# Altium integrated library STM32.intlib: 10 symbols
Pins are listed as number, name and electrical type; pins without a type are passive.

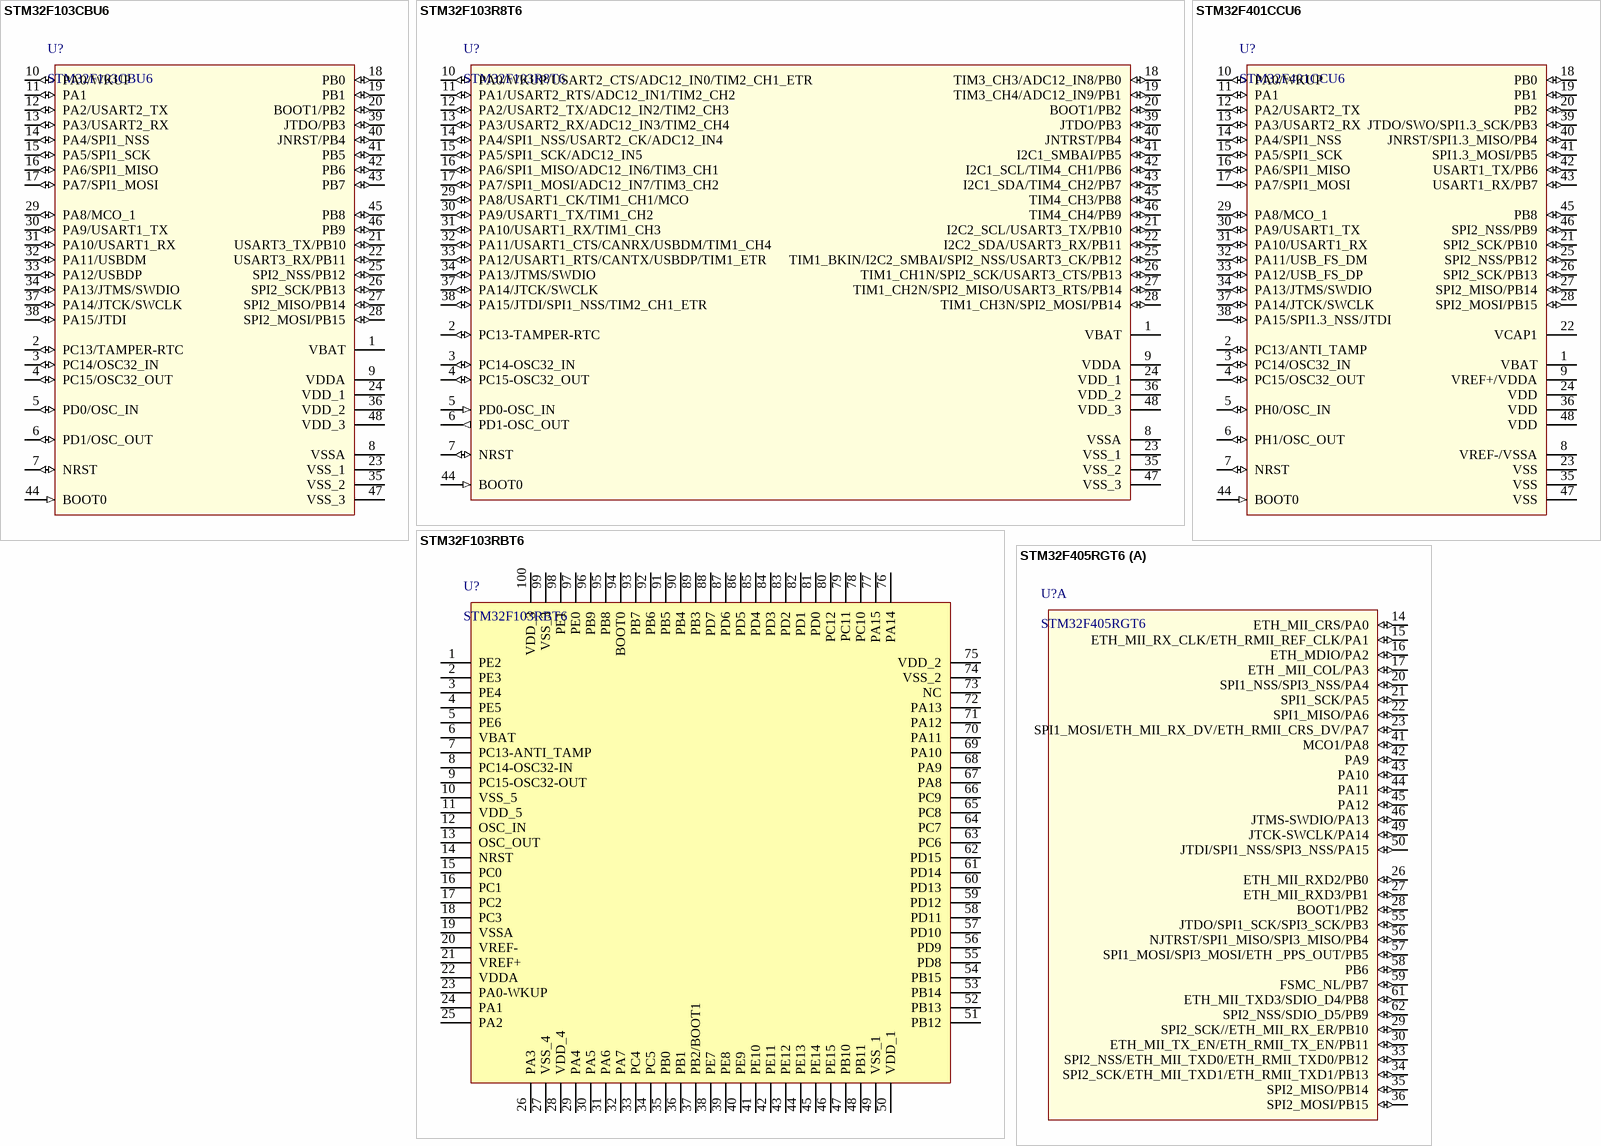
[diagram p0: symbols STM32F103CBU6 to STM32F405RGT6]

## STM32F103CBU6
designator U?
Published: 20130916
footprint QFN48-50P7X7X1 (QFN, 48-Leads, Body 7.2x7.2mm (max), Pitch 0.50mm, IPC Medium Density)
pins: 1 VBAT (power), 2 PC13/TAMPER-RTC (io), 3 PC14/OSC32_IN (io), 4 PC15/OSC32_OUT (io), 5 PD0/OSC_IN (io), 6 PD1/OSC_OUT (io), 7 NRST (io), 8 VSSA (power), 9 VDDA (power), 10 PA0/WKUP (io), 11 PA1 (io), 12 PA2/USART2_TX (io), 13 PA3/USART2_RX (io), 14 PA4/SPI1_NSS (io), 15 PA5/SPI1_SCK (io), 16 PA6/SPI1_MISO (io), 17 PA7/SPI1_MOSI (io), 18 PB0 (io), 19 PB1 (io), 20 BOOT1/PB2 (io), 21 USART3_TX/PB10 (io), 22 USART3_RX/PB11 (io), 23 VSS_1 (power), 24 VDD_1 (power), 25 SPI2_NSS/PB12 (io), 26 SPI2_SCK/PB13 (io), 27 SPI2_MISO/PB14 (io), 28 SPI2_MOSI/PB15 (io), 29 PA8/MCO_1 (io), 30 PA9/USART1_TX (io), 31 PA10/USART1_RX (io), 32 PA11/USBDM (io), 33 PA12/USBDP (io), 34 PA13/JTMS/SWDIO (io), 35 VSS_2 (power), 36 VDD_2 (power), 37 PA14/JTCK/SWCLK (io), 38 PA15/JTDI (io), 39 JTDO/PB3 (io), 40 JNRST/PB4 (io), 41 PB5 (io), 42 PB6 (io), 43 PB7 (io), 44 BOOT0 (in), 45 PB8 (io), 46 PB9 (io), 47 VSS_3 (power), 48 VDD_3 (power)

## STM32F103R8T6
designator U?
Published: 20130111
footprint LQFP48-50P7X7X1.6 (LQFP, 48-Leads, Body 9.2x9.2mm (max), Pitch 0.50mm, IPC Medium Density)
pins: 1 VBAT (power), 2 PC13-TAMPER-RTC (io), 3 PC14-OSC32_IN (io), 4 PC15-OSC32_OUT (io), 5 PD0-OSC_IN (in), 6 PD1-OSC_OUT (out), 7 NRST (io), 8 VSSA (power), 9 VDDA (power), 10 PA0/WKUP/USART2_CTS/ADC12_IN0/TIM2_CH1_ETR (io), 11 PA1/USART2_RTS/ADC12_IN1/TIM2_CH2 (io), 12 PA2/USART2_TX/ADC12_IN2/TIM2_CH3 (io), 13 PA3/USART2_RX/ADC12_IN3/TIM2_CH4 (io), 14 PA4/SPI1_NSS/USART2_CK/ADC12_IN4 (io), 15 PA5/SPI1_SCK/ADC12_IN5 (io), 16 PA6/SPI1_MISO/ADC12_IN6/TIM3_CH1 (io), 17 PA7/SPI1_MOSI/ADC12_IN7/TIM3_CH2 (io), 18 TIM3_CH3/ADC12_IN8/PB0 (io), 19 TIM3_CH4/ADC12_IN9/PB1 (io), 20 BOOT1/PB2 (io), 21 I2C2_SCL/USART3_TX/PB10 (io), 22 I2C2_SDA/USART3_RX/PB11 (io), 23 VSS_1 (power), 24 VDD_1 (power), 25 TIM1_BKIN/I2C2_SMBAI/SPI2_NSS/USART3_CK/PB12 (io), 26 TIM1_CH1N/SPI2_SCK/USART3_CTS/PB13 (io), 27 TIM1_CH2N/SPI2_MISO/USART3_RTS/PB14 (io), 28 TIM1_CH3N/SPI2_MOSI/PB14 (io), 29 PA8/USART1_CK/TIM1_CH1/MCO (io), 30 PA9/USART1_TX/TIM1_CH2 (io), 31 PA10/USART1_RX/TIM1_CH3 (io), 32 PA11/USART1_CTS/CANRX/USBDM/TIM1_CH4 (io), 33 PA12/USART1_RTS/CANTX/USBDP/TIM1_ETR (io), 34 PA13/JTMS/SWDIO (io), 35 VSS_2 (power), 36 VDD_2 (power), 37 PA14/JTCK/SWCLK (io), 38 PA15/JTDI/SPI1_NSS/TIM2_CH1_ETR (io), 39 JTDO/PB3 (io), 40 JNTRST/PB4 (io), 41 I2C1_SMBAI/PB5 (io), 42 I2C1_SCL/TIM4_CH1/PB6 (io), 43 I2C1_SDA/TIM4_CH2/PB7 (io), 44 BOOT0 (in), 45 TIM4_CH3/PB8 (io), 46 TIM4_CH4/PB9 (io), 47 VSS_3 (power), 48 VDD_3 (power)

## STM32F103RBT6
designator U?
Published: 20110607
footprint TQFP100N50P14X14X1.2 (TQFP, 100-Leads, Body 16.0x16.0mm (max), Pitch 0.50mm, IPC Medium Density)
pins: 1 PE2, 2 PE3, 3 PE4, 4 PE5, 5 PE6, 6 VBAT, 7 PC13-ANTI_TAMP, 8 PC14-OSC32-IN, 9 PC15-OSC32-OUT, 10 VSS_5, 11 VDD_5, 12 OSC_IN, 13 OSC_OUT, 14 NRST, 15 PC0, 16 PC1, 17 PC2, 18 PC3, 19 VSSA, 20 VREF-, 21 VREF+, 22 VDDA, 23 PA0-WKUP, 24 PA1, 25 PA2, 26 PA3, 27 VSS_4, 28 VDD_4, 29 PA4, 30 PA5, 31 PA6, 32 PA7, 33 PC4, 34 PC5, 35 PB0, 36 PB1, 37 PB2/BOOT1, 38 PE7, 39 PE8, 40 PE9, 41 PE10, 42 PE11, 43 PE12, 44 PE13, 45 PE14, 46 PE15, 47 PB10, 48 PB11, 49 VSS_1, 50 VDD_1, 51 PB12, 52 PB13, 53 PB14, 54 PB15, 55 PD8, 56 PD9, 57 PD10, 58 PD11, 59 PD12, 60 PD13, 61 PD14, 62 PD15, 63 PC6, 64 PC7, 65 PC8, 66 PC9, 67 PA8, 68 PA9, 69 PA10, 70 PA11, 71 PA12, 72 PA13, 73 NC, 74 VSS_2, 75 VDD_2, 76 PA14, 77 PA15, 78 PC10, 79 PC11, 80 PC12, 81 PD0, 82 PD1, 83 PD2, 84 PD3, 85 PD4, 86 PD5, 87 PD6, 88 PD7, 89 PB3, 90 PB4, 91 PB5, 92 PB6, 93 PB7, 94 BOOT0, 95 PB8, 96 PB9, 97 PE0, 98 PE1, 99 VSS_3, 100 VDD_3

## STM32F401CCU6
designator U?
Published: 20131015
footprint QFN48-50P7X7X1 (QFN, 48-Leads, Body 7.2x7.2mm (max), Pitch 0.50mm, IPC Medium Density)
pins: 1 VBAT (power), 2 PC13/ANTI_TAMP (io), 3 PC14/OSC32_IN (io), 4 PC15/OSC32_OUT (io), 5 PH0/OSC_IN (io), 6 PH1/OSC_OUT (io), 7 NRST (io), 8 VREF-/VSSA (power), 9 VREF+/VDDA (power), 10 PA0/WKUP (io), 11 PA1 (io), 12 PA2/USART2_TX (io), 13 PA3/USART2_RX (io), 14 PA4/SPI1_NSS (io), 15 PA5/SPI1_SCK (io), 16 PA6/SPI1_MISO (io), 17 PA7/SPI1_MOSI (io), 18 PB0 (io), 19 PB1 (io), 20 PB2 (io), 21 SPI2_SCK/PB10 (io), 22 VCAP1 (power), 23 VSS (power), 24 VDD (power), 25 SPI2_NSS/PB12 (io), 26 SPI2_SCK/PB13 (io), 27 SPI2_MISO/PB14 (io), 28 SPI2_MOSI/PB15 (io), 29 PA8/MCO_1 (io), 30 PA9/USART1_TX (io), 31 PA10/USART1_RX (io), 32 PA11/USB_FS_DM (io), 33 PA12/USB_FS_DP (io), 34 PA13/JTMS/SWDIO (io), 35 VSS (power), 36 VDD (power), 37 PA14/JTCK/SWCLK (io), 38 PA15/SPI1.3_NSS/JTDI (io), 39 JTDO/SWO/SPI1.3_SCK/PB3 (io), 40 JNRST/SPI1.3_MISO/PB4 (io), 41 SPI1.3_MOSI/PB5 (io), 42 USART1_TX/PB6 (io), 43 USART1_RX/PB7 (io), 44 BOOT0 (in), 45 PB8 (io), 46 SPI2_NSS/PB9 (io), 47 VSS (power), 48 VDD (power)

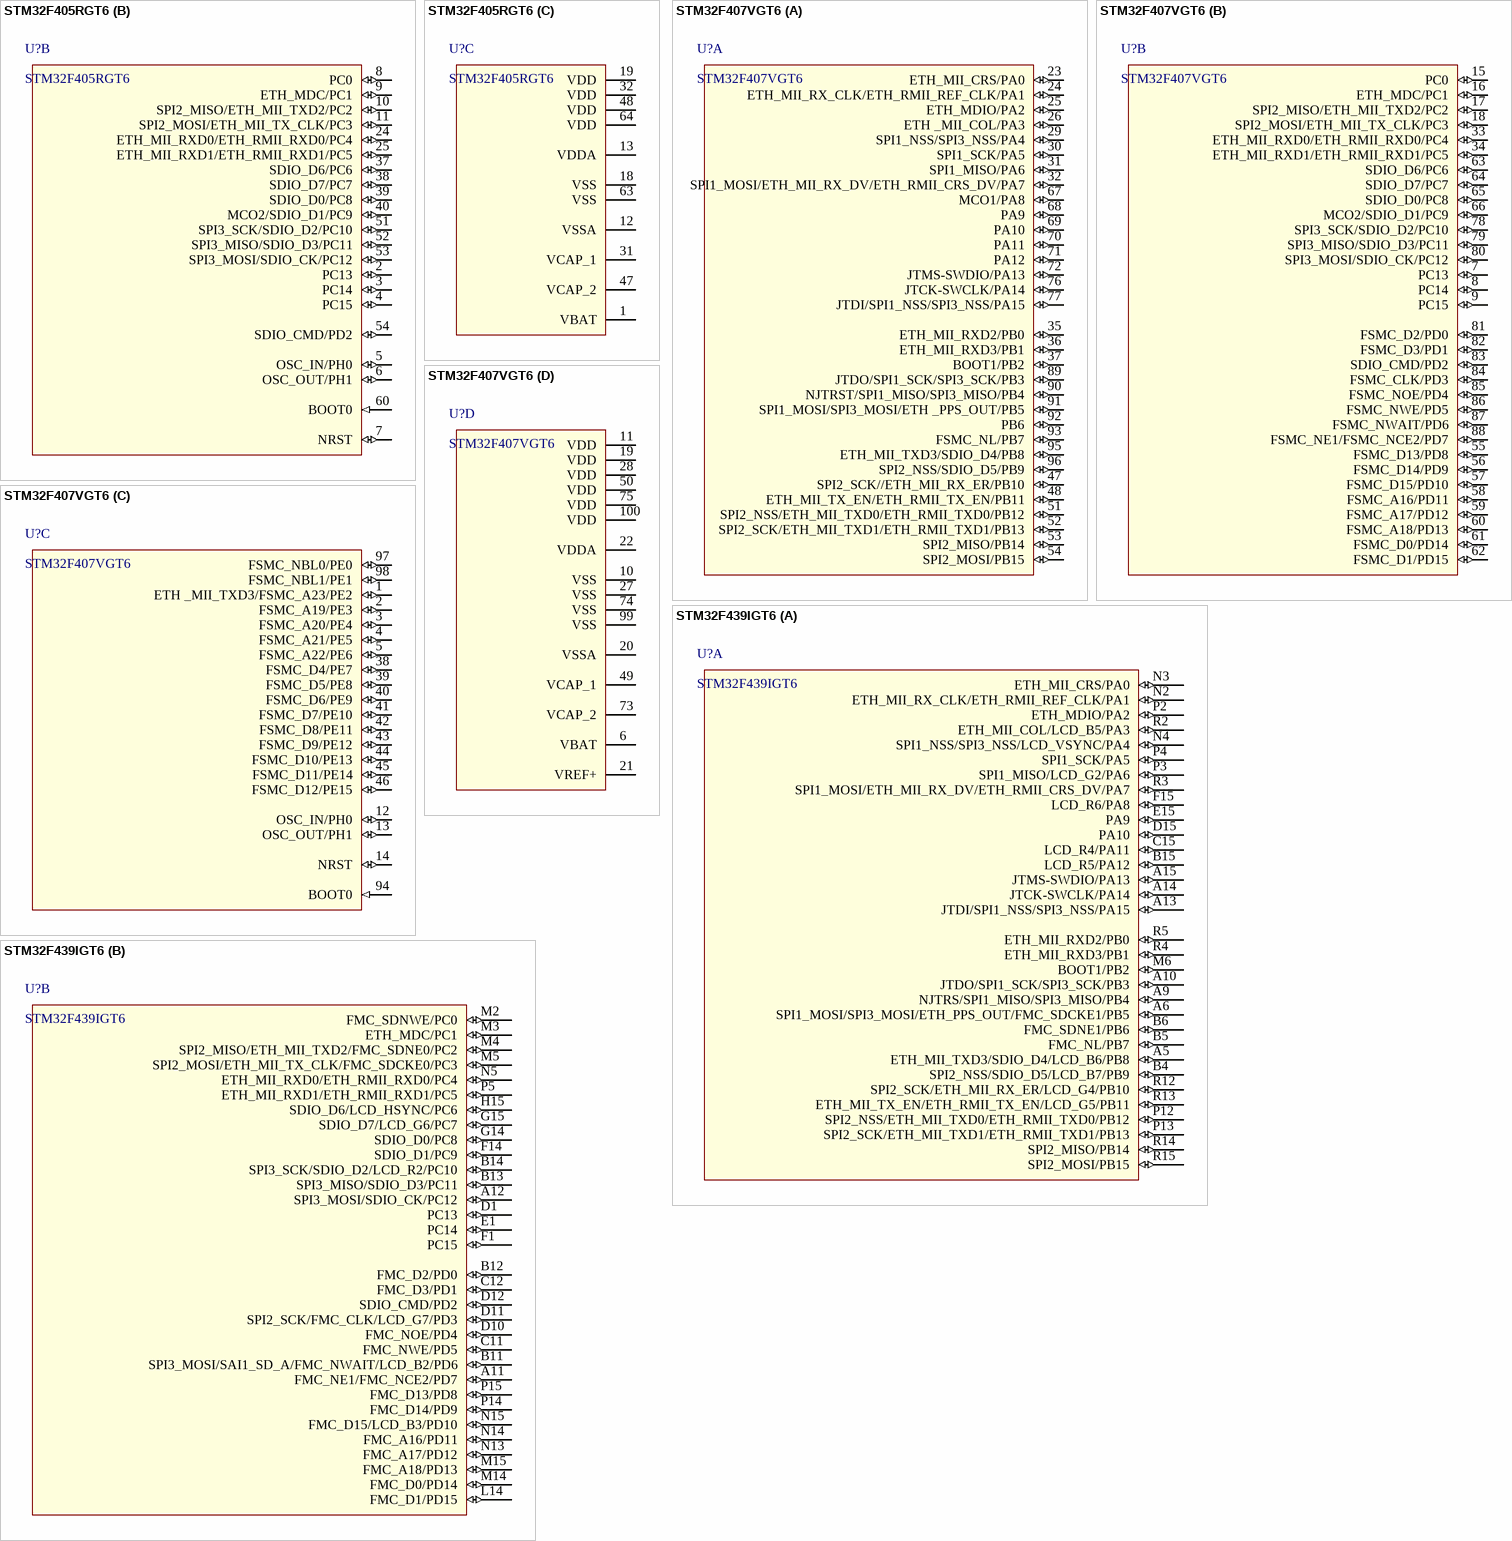
[diagram p1: symbols STM32F405RGT6 to STM32F439IGT6]

## STM32F405RGT6
designator U?
Published: 20130917
footprint QFP64-50P10X10X1.6
part A pins: 14 ETH_MII_CRS/PA0 (io), 15 ETH_MII_RX_CLK/ETH_RMII_REF_CLK/PA1 (io), 16 ETH_MDIO/PA2 (io), 17 ETH _MII_COL/PA3 (io), 20 SPI1_NSS/SPI3_NSS/PA4 (io), 21 SPI1_SCK/PA5 (io), 22 SPI1_MISO/PA6 (io), 23 SPI1_MOSI/ETH_MII_RX_DV/ETH_RMII_CRS_DV/PA7 (io), 26 ETH_MII_RXD2/PB0 (io), 27 ETH_MII_RXD3/PB1 (io), 28 BOOT1/PB2 (io), 29 SPI2_SCK//ETH_MII_RX_ER/PB10 (io), 30 ETH_MII_TX_EN/ETH_RMII_TX_EN/PB11 (io), 33 SPI2_NSS/ETH_MII_TXD0/ETH_RMII_TXD0/PB12 (io), 34 SPI2_SCK/ETH_MII_TXD1/ETH_RMII_TXD1/PB13 (io), 35 SPI2_MISO/PB14 (io), 36 SPI2_MOSI/PB15 (io), 41 MCO1/PA8 (io), 42 PA9 (io), 43 PA10 (io), 44 PA11 (io), 45 PA12 (io), 46 JTMS-SWDIO/PA13 (io), 49 JTCK-SWCLK/PA14 (io), 50 JTDI/SPI1_NSS/SPI3_NSS/PA15 (io), 55 JTDO/SPI1_SCK/SPI3_SCK/PB3 (io), 56 NJTRST/SPI1_MISO/SPI3_MISO/PB4 (io), 57 SPI1_MOSI/SPI3_MOSI/ETH _PPS_OUT/PB5 (io), 58 PB6 (io), 59 FSMC_NL/PB7 (io), 61 ETH_MII_TXD3/SDIO_D4/PB8 (io), 62 SPI2_NSS/SDIO_D5/PB9 (io)
part B pins: 2 PC13 (io), 3 PC14 (io), 4 PC15 (io), 5 OSC_IN/PH0 (io), 6 OSC_OUT/PH1 (io), 7 NRST (io), 8 PC0 (io), 9 ETH_MDC/PC1 (io), 10 SPI2_MISO/ETH_MII_TXD2/PC2 (io), 11 SPI2_MOSI/ETH_MII_TX_CLK/PC3 (io), 24 ETH_MII_RXD0/ETH_RMII_RXD0/PC4 (io), 25 ETH_MII_RXD1/ETH_RMII_RXD1/PC5 (io), 37 SDIO_D6/PC6 (io), 38 SDIO_D7/PC7 (io), 39 SDIO_D0/PC8 (io), 40 MCO2/SDIO_D1/PC9 (io), 51 SPI3_SCK/SDIO_D2/PC10 (io), 52 SPI3_MISO/SDIO_D3/PC11 (io), 53 SPI3_MOSI/SDIO_CK/PC12 (io), 54 SDIO_CMD/PD2 (io), 60 BOOT0 (in)
part C pins: 1 VBAT (power), 12 VSSA (power), 13 VDDA (power), 18 VSS (power), 19 VDD (power), 31 VCAP_1 (power), 32 VDD (power), 47 VCAP_2 (power), 48 VDD (power), 63 VSS (power), 64 VDD (power)

## STM32F407VGT6
designator U?
Published: 20130831
part A pins: 23 ETH_MII_CRS/PA0 (io), 24 ETH_MII_RX_CLK/ETH_RMII_REF_CLK/PA1 (io), 25 ETH_MDIO/PA2 (io), 26 ETH _MII_COL/PA3 (io), 29 SPI1_NSS/SPI3_NSS/PA4 (io), 30 SPI1_SCK/PA5 (io), 31 SPI1_MISO/PA6 (io), 32 SPI1_MOSI/ETH_MII_RX_DV/ETH_RMII_CRS_DV/PA7 (io), 35 ETH_MII_RXD2/PB0 (io), 36 ETH_MII_RXD3/PB1 (io), 37 BOOT1/PB2 (io), 47 SPI2_SCK//ETH_MII_RX_ER/PB10 (io), 48 ETH_MII_TX_EN/ETH_RMII_TX_EN/PB11 (io), 51 SPI2_NSS/ETH_MII_TXD0/ETH_RMII_TXD0/PB12 (io), 52 SPI2_SCK/ETH_MII_TXD1/ETH_RMII_TXD1/PB13 (io), 53 SPI2_MISO/PB14 (io), 54 SPI2_MOSI/PB15 (io), 67 MCO1/PA8 (io), 68 PA9 (io), 69 PA10 (io), 70 PA11 (io), 71 PA12 (io), 72 JTMS-SWDIO/PA13 (io), 76 JTCK-SWCLK/PA14 (io), 77 JTDI/SPI1_NSS/SPI3_NSS/PA15 (io), 89 JTDO/SPI1_SCK/SPI3_SCK/PB3 (io), 90 NJTRST/SPI1_MISO/SPI3_MISO/PB4 (io), 91 SPI1_MOSI/SPI3_MOSI/ETH _PPS_OUT/PB5 (io), 92 PB6 (io), 93 FSMC_NL/PB7 (io), 95 ETH_MII_TXD3/SDIO_D4/PB8 (io), 96 SPI2_NSS/SDIO_D5/PB9 (io)
part B pins: 7 PC13 (io), 8 PC14 (io), 9 PC15 (io), 15 PC0 (io), 16 ETH_MDC/PC1 (io), 17 SPI2_MISO/ETH_MII_TXD2/PC2 (io), 18 SPI2_MOSI/ETH_MII_TX_CLK/PC3 (io), 33 ETH_MII_RXD0/ETH_RMII_RXD0/PC4 (io), 34 ETH_MII_RXD1/ETH_RMII_RXD1/PC5 (io), 55 FSMC_D13/PD8 (io), 56 FSMC_D14/PD9 (io), 57 FSMC_D15/PD10 (io), 58 FSMC_A16/PD11 (io), 59 FSMC_A17/PD12 (io), 60 FSMC_A18/PD13 (io), 61 FSMC_D0/PD14 (io), 62 FSMC_D1/PD15 (io), 63 SDIO_D6/PC6 (io), 64 SDIO_D7/PC7 (io), 65 SDIO_D0/PC8 (io), 66 MCO2/SDIO_D1/PC9 (io), 78 SPI3_SCK/SDIO_D2/PC10 (io), 79 SPI3_MISO/SDIO_D3/PC11 (io), 80 SPI3_MOSI/SDIO_CK/PC12 (io), 81 FSMC_D2/PD0 (io), 82 FSMC_D3/PD1 (io), 83 SDIO_CMD/PD2 (io), 84 FSMC_CLK/PD3 (io), 85 FSMC_NOE/PD4 (io), 86 FSMC_NWE/PD5 (io), 87 FSMC_NWAIT/PD6 (io), 88 FSMC_NE1/FSMC_NCE2/PD7 (io)
part C pins: 1 ETH _MII_TXD3/FSMC_A23/PE2 (io), 2 FSMC_A19/PE3 (io), 3 FSMC_A20/PE4 (io), 4 FSMC_A21/PE5 (io), 5 FSMC_A22/PE6 (io), 12 OSC_IN/PH0 (io), 13 OSC_OUT/PH1 (io), 14 NRST (io), 38 FSMC_D4/PE7 (io), 39 FSMC_D5/PE8 (io), 40 FSMC_D6/PE9 (io), 41 FSMC_D7/PE10 (io), 42 FSMC_D8/PE11 (io), 43 FSMC_D9/PE12 (io), 44 FSMC_D10/PE13 (io), 45 FSMC_D11/PE14 (io), 46 FSMC_D12/PE15 (io), 94 BOOT0 (in), 97 FSMC_NBL0/PE0 (io), 98 FSMC_NBL1/PE1 (io)
part D pins: 6 VBAT (power), 10 VSS (power), 11 VDD (power), 19 VDD (power), 20 VSSA (power), 21 VREF+ (power), 22 VDDA (power), 27 VSS (power), 28 VDD (power), 49 VCAP_1 (power), 50 VDD (power), 73 VCAP_2 (power), 74 VSS (power), 75 VDD (power), 99 VSS (power), 100 VDD (power)

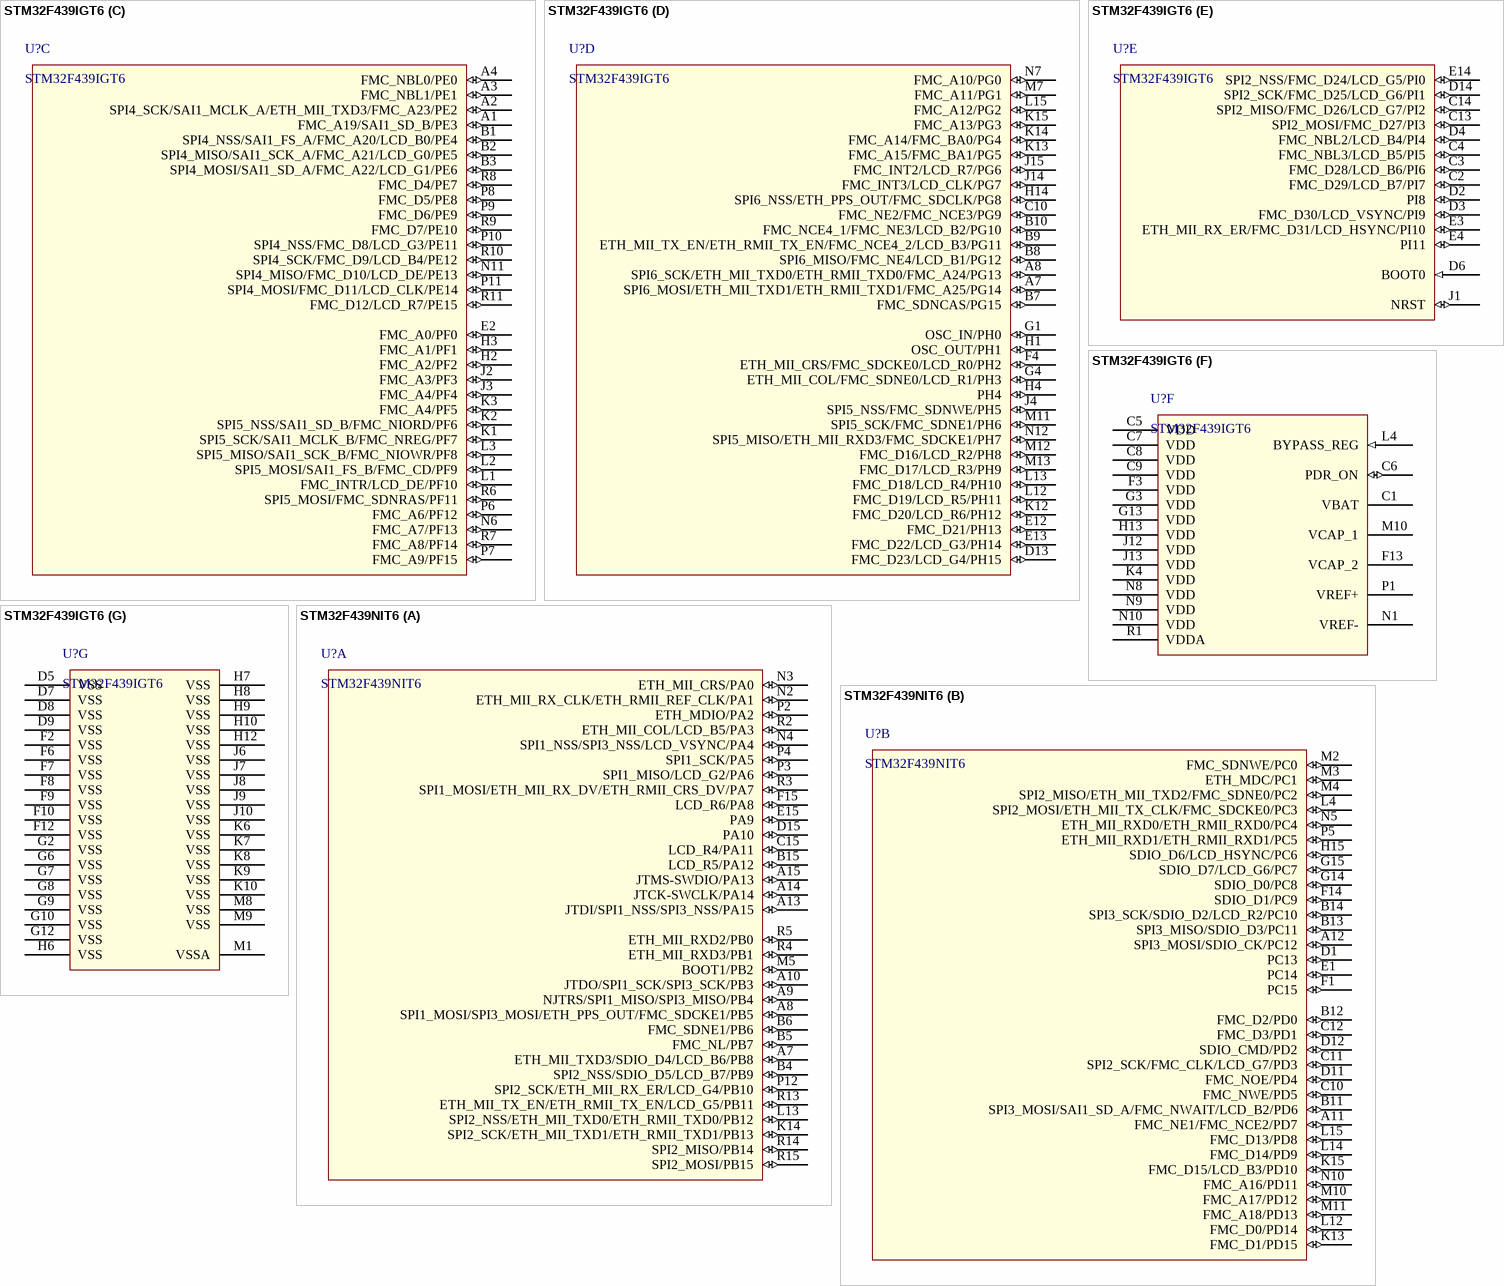
[diagram p2: symbols STM32F439IGT6 to STM32F439NIT6]

## STM32F439IGT6
designator U?
Published: 20130814
footprint BGA176C65P10X10X0.6 (BGA, 176-Leads, Body 10.0x10.0mm,  Pitch 0.65mm)
part A pins: A5 ETH_MII_TXD3/SDIO_D4/LCD_B6/PB8 (io), A6 SPI1_MOSI/SPI3_MOSI/ETH_PPS_OUT/FMC_SDCKE1/PB5 (io), A9 NJTRS/SPI1_MISO/SPI3_MISO/PB4 (io), A10 JTDO/SPI1_SCK/SPI3_SCK/PB3 (io), A13 JTDI/SPI1_NSS/SPI3_NSS/PA15 (io), A14 JTCK-SWCLK/PA14 (io), A15 JTMS-SWDIO/PA13 (io), B4 SPI2_NSS/SDIO_D5/LCD_B7/PB9 (io), B5 FMC_NL/PB7 (io), B6 FMC_SDNE1/PB6 (io), B15 LCD_R5/PA12 (io), C15 LCD_R4/PA11 (io), D15 PA10 (io), E15 PA9 (io), F15 LCD_R6/PA8 (io), M6 BOOT1/PB2 (io), N2 ETH_MII_RX_CLK/ETH_RMII_REF_CLK/PA1 (io), N3 ETH_MII_CRS/PA0 (io), N4 SPI1_NSS/SPI3_NSS/LCD_VSYNC/PA4 (io), P2 ETH_MDIO/PA2 (io), P3 SPI1_MISO/LCD_G2/PA6 (io), P4 SPI1_SCK/PA5 (io), P12 SPI2_NSS/ETH_MII_TXD0/ETH_RMII_TXD0/PB12 (io), P13 SPI2_SCK/ETH_MII_TXD1/ETH_RMII_TXD1/PB13 (io), R2 ETH_MII_COL/LCD_B5/PA3 (io), R3 SPI1_MOSI/ETH_MII_RX_DV/ETH_RMII_CRS_DV/PA7 (io), R4 ETH_MII_RXD3/PB1 (io), R5 ETH_MII_RXD2/PB0 (io), R12 SPI2_SCK/ETH_MII_RX_ER/LCD_G4/PB10 (io), R13 ETH_MII_TX_EN/ETH_RMII_TX_EN/LCD_G5/PB11 (io), R14 SPI2_MISO/PB14 (io), R15 SPI2_MOSI/PB15 (io)
part B pins: A11 FMC_NE1/FMC_NCE2/PD7 (io), A12 SPI3_MOSI/SDIO_CK/PC12 (io), B11 SPI3_MOSI/SAI1_SD_A/FMC_NWAIT/LCD_B2/PD6 (io), B12 FMC_D2/PD0 (io), B13 SPI3_MISO/SDIO_D3/PC11 (io), B14 SPI3_SCK/SDIO_D2/LCD_R2/PC10 (io), C11 FMC_NWE/PD5 (io), C12 FMC_D3/PD1 (io), D1 PC13 (io), D10 FMC_NOE/PD4 (io), D11 SPI2_SCK/FMC_CLK/LCD_G7/PD3 (io), D12 SDIO_CMD/PD2 (io), E1 PC14 (io), F1 PC15 (io), F14 SDIO_D1/PC9 (io), G14 SDIO_D0/PC8 (io), G15 SDIO_D7/LCD_G6/PC7 (io), H15 SDIO_D6/LCD_HSYNC/PC6 (io), L14 FMC_D1/PD15 (io), M2 FMC_SDNWE/PC0 (io), M3 ETH_MDC/PC1 (io), M4 SPI2_MISO/ETH_MII_TXD2/FMC_SDNE0/PC2 (io), M5 SPI2_MOSI/ETH_MII_TX_CLK/FMC_SDCKE0/PC3 (io), M14 FMC_D0/PD14 (io), M15 FMC_A18/PD13 (io), N5 ETH_MII_RXD0/ETH_RMII_RXD0/PC4 (io), N13 FMC_A17/PD12 (io), N14 FMC_A16/PD11 (io), N15 FMC_D15/LCD_B3/PD10 (io), P5 ETH_MII_RXD1/ETH_RMII_RXD1/PC5 (io), P14 FMC_D14/PD9 (io), P15 FMC_D13/PD8 (io)
part C pins: A1 FMC_A19/SAI1_SD_B/PE3 (io), A2 SPI4_SCK/SAI1_MCLK_A/ETH_MII_TXD3/FMC_A23/PE2 (io), A3 FMC_NBL1/PE1 (io), A4 FMC_NBL0/PE0 (io), B1 SPI4_NSS/SAI1_FS_A/FMC_A20/LCD_B0/PE4 (io), B2 SPI4_MISO/SAI1_SCK_A/FMC_A21/LCD_G0/PE5 (io), B3 SPI4_MOSI/SAI1_SD_A/FMC_A22/LCD_G1/PE6 (io), E2 FMC_A0/PF0 (io), H2 FMC_A2/PF2 (io), H3 FMC_A1/PF1 (io), J2 FMC_A3/PF3 (io), J3 FMC_A4/PF4 (io), K1 SPI5_SCK/SAI1_MCLK_B/FMC_NREG/PF7 (io), K2 SPI5_NSS/SAI1_SD_B/FMC_NIORD/PF6 (io), K3 FMC_A4/PF5 (io), L1 FMC_INTR/LCD_DE/PF10 (io), L2 SPI5_MOSI/SAI1_FS_B/FMC_CD/PF9 (io), L3 SPI5_MISO/SAI1_SCK_B/FMC_NIOWR/PF8 (io), N6 FMC_A7/PF13 (io), N11 SPI4_MISO/FMC_D10/LCD_DE/PE13 (io), P6 FMC_A6/PF12 (io), P7 FMC_A9/PF15 (io), P8 FMC_D5/PE8 (io), P9 FMC_D6/PE9 (io), P10 SPI4_NSS/FMC_D8/LCD_G3/PE11 (io), P11 SPI4_MOSI/FMC_D11/LCD_CLK/PE14 (io), R6 SPI5_MOSI/FMC_SDNRAS/PF11 (io), R7 FMC_A8/PF14 (io), R8 FMC_D4/PE7 (io), R9 FMC_D7/PE10 (io), R10 SPI4_SCK/FMC_D9/LCD_B4/PE12 (io), R11 FMC_D12/LCD_R7/PE15 (io)
part D pins: A7 SPI6_MOSI/ETH_MII_TXD1/ETH_RMII_TXD1/FMC_A25/PG14 (io), A8 SPI6_SCK/ETH_MII_TXD0/ETH_RMII_TXD0/FMC_A24/PG13 (io), B7 FMC_SDNCAS/PG15 (io), B8 SPI6_MISO/FMC_NE4/LCD_B1/PG12 (io), B9 ETH_MII_TX_EN/ETH_RMII_TX_EN/FMC_NCE4_2/LCD_B3/PG11 (io), B10 FMC_NCE4_1/FMC_NE3/LCD_B2/PG10 (io), C10 FMC_NE2/FMC_NCE3/PG9 (io), D13 FMC_D23/LCD_G4/PH15 (io), E12 FMC_D21/PH13 (io), E13 FMC_D22/LCD_G3/PH14 (io), F4 ETH_MII_CRS/FMC_SDCKE0/LCD_R0/PH2 (io), G1 OSC_IN/PH0 (io), G4 ETH_MII_COL/FMC_SDNE0/LCD_R1/PH3 (io), H1 OSC_OUT/PH1 (io), H4 PH4 (io), H14 SPI6_NSS/ETH_PPS_OUT/FMC_SDCLK/PG8 (io), J4 SPI5_NSS/FMC_SDNWE/PH5 (io), J14 FMC_INT3/LCD_CLK/PG7 (io), J15 FMC_INT2/LCD_R7/PG6 (io), K12 FMC_D20/LCD_R6/PH12 (io), K13 FMC_A15/FMC_BA1/PG5 (io), K14 FMC_A14/FMC_BA0/PG4 (io), K15 FMC_A13/PG3 (io), L12 FMC_D19/LCD_R5/PH11 (io), L13 FMC_D18/LCD_R4/PH10 (io), L15 FMC_A12/PG2 (io), M7 FMC_A11/PG1 (io), M11 SPI5_SCK/FMC_SDNE1/PH6 (io), M12 FMC_D16/LCD_R2/PH8 (io), M13 FMC_D17/LCD_R3/PH9 (io), N7 FMC_A10/PG0 (io), N12 SPI5_MISO/ETH_MII_RXD3/FMC_SDCKE1/PH7 (io)
part E pins: C2 FMC_D29/LCD_B7/PI7 (io), C3 FMC_D28/LCD_B6/PI6 (io), C4 FMC_NBL3/LCD_B5/PI5 (io), C13 SPI2_MOSI/FMC_D27/PI3 (io), C14 SPI2_MISO/FMC_D26/LCD_G7/PI2 (io), D2 PI8 (io), D3 FMC_D30/LCD_VSYNC/PI9 (io), D4 FMC_NBL2/LCD_B4/PI4 (io), D6 BOOT0 (in), D14 SPI2_SCK/FMC_D25/LCD_G6/PI1 (io), E3 ETH_MII_RX_ER/FMC_D31/LCD_HSYNC/PI10 (io), E4 PI11 (io), E14 SPI2_NSS/FMC_D24/LCD_G5/PI0 (io), J1 NRST (io)
part F pins: C1 VBAT (power), C5 VDD (power), C6 PDR_ON (io), C7 VDD (power), C8 VDD (power), C9 VDD (power), F3 VDD (power), F13 VCAP_2 (power), G3 VDD (power), G13 VDD (power), H13 VDD (power), J12 VDD (power), J13 VDD (power), K4 VDD (power), L4 BYPASS_REG (in), M10 VCAP_1 (power), N1 VREF- (power), N8 VDD (power), N9 VDD (power), N10 VDD (power), P1 VREF+ (power), R1 VDDA (power)
part G pins: D5 VSS (power), D7 VSS (power), D8 VSS (power), D9 VSS (power), F2 VSS (power), F6 VSS (power), F7 VSS (power), F8 VSS (power), F9 VSS (power), F10 VSS (power), F12 VSS (power), G2 VSS (power), G6 VSS (power), G7 VSS (power), G8 VSS (power), G9 VSS (power), G10 VSS (power), G12 VSS (power), H6 VSS (power), H7 VSS (power), H8 VSS (power), H9 VSS (power), H10 VSS (power), H12 VSS (power), J6 VSS (power), J7 VSS (power), J8 VSS (power), J9 VSS (power), J10 VSS (power), K6 VSS (power), K7 VSS (power), K8 VSS (power), K9 VSS (power), K10 VSS (power), M1 VSSA (power), M8 VSS (power), M9 VSS (power)

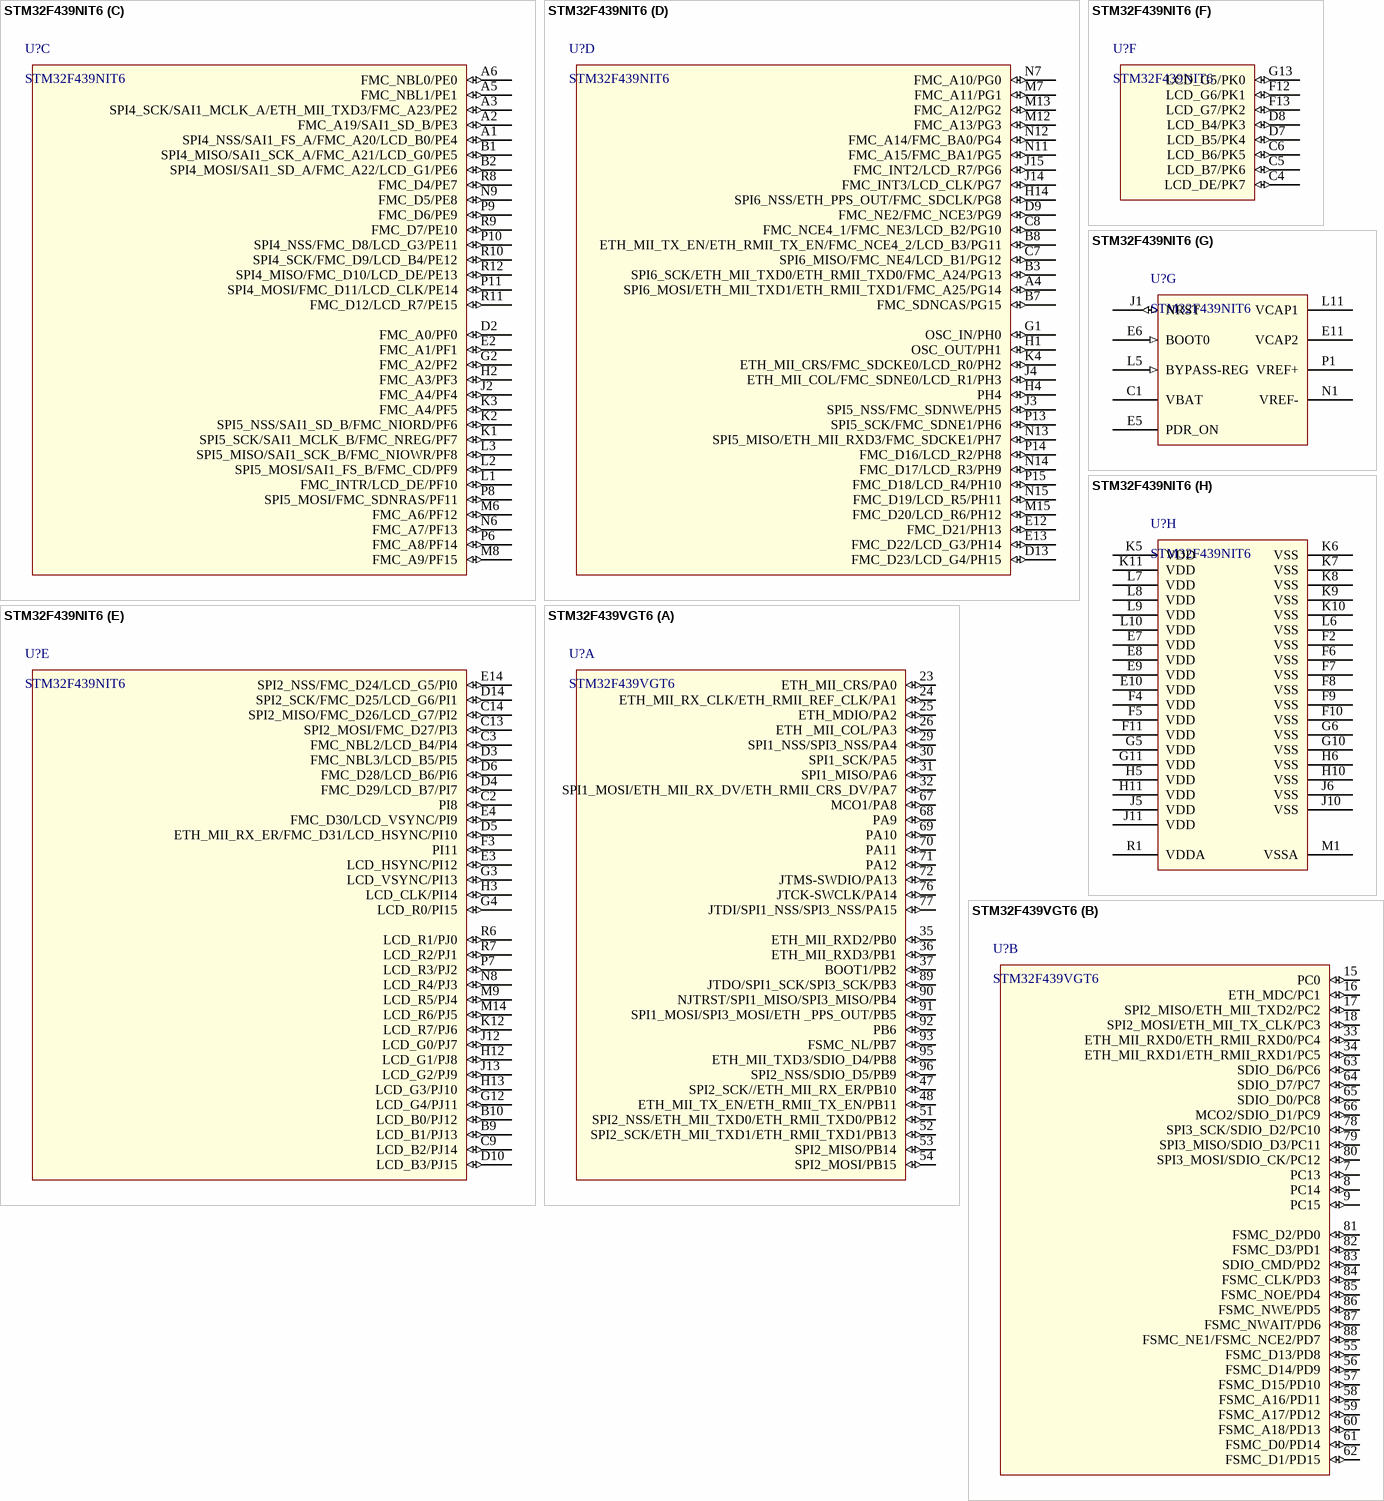
[diagram p3: symbols STM32F439NIT6 to STM32F439VGT6]

## STM32F439NIT6
designator U?
Published: 20130831
footprint BGA216C80P13X13X1 (BGA, 216-Leads, Body 13.0x13.0mm,  Pitch 0.80mm)
part A pins: A7 ETH_MII_TXD3/SDIO_D4/LCD_B6/PB8 (io), A8 SPI1_MOSI/SPI3_MOSI/ETH_PPS_OUT/FMC_SDCKE1/PB5 (io), A9 NJTRS/SPI1_MISO/SPI3_MISO/PB4 (io), A10 JTDO/SPI1_SCK/SPI3_SCK/PB3 (io), A13 JTDI/SPI1_NSS/SPI3_NSS/PA15 (io), A14 JTCK-SWCLK/PA14 (io), A15 JTMS-SWDIO/PA13 (io), B4 SPI2_NSS/SDIO_D5/LCD_B7/PB9 (io), B5 FMC_NL/PB7 (io), B6 FMC_SDNE1/PB6 (io), B15 LCD_R5/PA12 (io), C15 LCD_R4/PA11 (io), D15 PA10 (io), E15 PA9 (io), F15 LCD_R6/PA8 (io), K14 SPI2_SCK/ETH_MII_TXD1/ETH_RMII_TXD1/PB13 (io), L13 SPI2_NSS/ETH_MII_TXD0/ETH_RMII_TXD0/PB12 (io), M5 BOOT1/PB2 (io), N2 ETH_MII_RX_CLK/ETH_RMII_REF_CLK/PA1 (io), N3 ETH_MII_CRS/PA0 (io), N4 SPI1_NSS/SPI3_NSS/LCD_VSYNC/PA4 (io), P2 ETH_MDIO/PA2 (io), P3 SPI1_MISO/LCD_G2/PA6 (io), P4 SPI1_SCK/PA5 (io), P12 SPI2_SCK/ETH_MII_RX_ER/LCD_G4/PB10 (io), R2 ETH_MII_COL/LCD_B5/PA3 (io), R3 SPI1_MOSI/ETH_MII_RX_DV/ETH_RMII_CRS_DV/PA7 (io), R4 ETH_MII_RXD3/PB1 (io), R5 ETH_MII_RXD2/PB0 (io), R13 ETH_MII_TX_EN/ETH_RMII_TX_EN/LCD_G5/PB11 (io), R14 SPI2_MISO/PB14 (io), R15 SPI2_MOSI/PB15 (io)
part B pins: A11 FMC_NE1/FMC_NCE2/PD7 (io), A12 SPI3_MOSI/SDIO_CK/PC12 (io), B11 SPI3_MOSI/SAI1_SD_A/FMC_NWAIT/LCD_B2/PD6 (io), B12 FMC_D2/PD0 (io), B13 SPI3_MISO/SDIO_D3/PC11 (io), B14 SPI3_SCK/SDIO_D2/LCD_R2/PC10 (io), C10 FMC_NWE/PD5 (io), C11 SPI2_SCK/FMC_CLK/LCD_G7/PD3 (io), C12 FMC_D3/PD1 (io), D1 PC13 (io), D11 FMC_NOE/PD4 (io), D12 SDIO_CMD/PD2 (io), E1 PC14 (io), F1 PC15 (io), F14 SDIO_D1/PC9 (io), G14 SDIO_D0/PC8 (io), G15 SDIO_D7/LCD_G6/PC7 (io), H15 SDIO_D6/LCD_HSYNC/PC6 (io), K13 FMC_D1/PD15 (io), K15 FMC_D15/LCD_B3/PD10 (io), L4 SPI2_MOSI/ETH_MII_TX_CLK/FMC_SDCKE0/PC3 (io), L12 FMC_D0/PD14 (io), L14 FMC_D14/PD9 (io), L15 FMC_D13/PD8 (io), M2 FMC_SDNWE/PC0 (io), M3 ETH_MDC/PC1 (io), M4 SPI2_MISO/ETH_MII_TXD2/FMC_SDNE0/PC2 (io), M10 FMC_A17/PD12 (io), M11 FMC_A18/PD13 (io), N5 ETH_MII_RXD0/ETH_RMII_RXD0/PC4 (io), N10 FMC_A16/PD11 (io), P5 ETH_MII_RXD1/ETH_RMII_RXD1/PC5 (io)
part C pins: A1 SPI4_NSS/SAI1_FS_A/FMC_A20/LCD_B0/PE4 (io), A2 FMC_A19/SAI1_SD_B/PE3 (io), A3 SPI4_SCK/SAI1_MCLK_A/ETH_MII_TXD3/FMC_A23/PE2 (io), A5 FMC_NBL1/PE1 (io), A6 FMC_NBL0/PE0 (io), B1 SPI4_MISO/SAI1_SCK_A/FMC_A21/LCD_G0/PE5 (io), B2 SPI4_MOSI/SAI1_SD_A/FMC_A22/LCD_G1/PE6 (io), D2 FMC_A0/PF0 (io), E2 FMC_A1/PF1 (io), G2 FMC_A2/PF2 (io), H2 FMC_A3/PF3 (io), J2 FMC_A4/PF4 (io), K1 SPI5_SCK/SAI1_MCLK_B/FMC_NREG/PF7 (io), K2 SPI5_NSS/SAI1_SD_B/FMC_NIORD/PF6 (io), K3 FMC_A4/PF5 (io), L1 FMC_INTR/LCD_DE/PF10 (io), L2 SPI5_MOSI/SAI1_FS_B/FMC_CD/PF9 (io), L3 SPI5_MISO/SAI1_SCK_B/FMC_NIOWR/PF8 (io), M6 FMC_A6/PF12 (io), M8 FMC_A9/PF15 (io), N6 FMC_A7/PF13 (io), N9 FMC_D5/PE8 (io), P6 FMC_A8/PF14 (io), P8 SPI5_MOSI/FMC_SDNRAS/PF11 (io), P9 FMC_D6/PE9 (io), P10 SPI4_NSS/FMC_D8/LCD_G3/PE11 (io), P11 SPI4_MOSI/FMC_D11/LCD_CLK/PE14 (io), R8 FMC_D4/PE7 (io), R9 FMC_D7/PE10 (io), R10 SPI4_SCK/FMC_D9/LCD_B4/PE12 (io), R11 FMC_D12/LCD_R7/PE15 (io), R12 SPI4_MISO/FMC_D10/LCD_DE/PE13 (io)
part D pins: A4 SPI6_MOSI/ETH_MII_TXD1/ETH_RMII_TXD1/FMC_A25/PG14 (io), B3 SPI6_SCK/ETH_MII_TXD0/ETH_RMII_TXD0/FMC_A24/PG13 (io), B7 FMC_SDNCAS/PG15 (io), B8 ETH_MII_TX_EN/ETH_RMII_TX_EN/FMC_NCE4_2/LCD_B3/PG11 (io), C7 SPI6_MISO/FMC_NE4/LCD_B1/PG12 (io), C8 FMC_NCE4_1/FMC_NE3/LCD_B2/PG10 (io), D9 FMC_NE2/FMC_NCE3/PG9 (io), D13 FMC_D23/LCD_G4/PH15 (io), E12 FMC_D21/PH13 (io), E13 FMC_D22/LCD_G3/PH14 (io), G1 OSC_IN/PH0 (io), H1 OSC_OUT/PH1 (io), H4 PH4 (io), H14 SPI6_NSS/ETH_PPS_OUT/FMC_SDCLK/PG8 (io), J3 SPI5_NSS/FMC_SDNWE/PH5 (io), J4 ETH_MII_COL/FMC_SDNE0/LCD_R1/PH3 (io), J14 FMC_INT3/LCD_CLK/PG7 (io), J15 FMC_INT2/LCD_R7/PG6 (io), K4 ETH_MII_CRS/FMC_SDCKE0/LCD_R0/PH2 (io), M7 FMC_A11/PG1 (io), M12 FMC_A13/PG3 (io), M13 FMC_A12/PG2 (io), M15 FMC_D20/LCD_R6/PH12 (io), N7 FMC_A10/PG0 (io), N11 FMC_A15/FMC_BA1/PG5 (io), N12 FMC_A14/FMC_BA0/PG4 (io), N13 SPI5_MISO/ETH_MII_RXD3/FMC_SDCKE1/PH7 (io), N14 FMC_D17/LCD_R3/PH9 (io), N15 FMC_D19/LCD_R5/PH11 (io), P13 SPI5_SCK/FMC_SDNE1/PH6 (io), P14 FMC_D16/LCD_R2/PH8 (io), P15 FMC_D18/LCD_R4/PH10 (io)
part E pins: B9 LCD_B1/PJ13 (io), B10 LCD_B0/PJ12 (io), C2 PI8 (io), C3 FMC_NBL2/LCD_B4/PI4 (io), C9 LCD_B2/PJ14 (io), C13 SPI2_MOSI/FMC_D27/PI3 (io), C14 SPI2_MISO/FMC_D26/LCD_G7/PI2 (io), D3 FMC_NBL3/LCD_B5/PI5 (io), D4 FMC_D29/LCD_B7/PI7 (io), D5 ETH_MII_RX_ER/FMC_D31/LCD_HSYNC/PI10 (io), D6 FMC_D28/LCD_B6/PI6 (io), D10 LCD_B3/PJ15 (io), D14 SPI2_SCK/FMC_D25/LCD_G6/PI1 (io), E3 LCD_HSYNC/PI12 (io), E4 FMC_D30/LCD_VSYNC/PI9 (io), E14 SPI2_NSS/FMC_D24/LCD_G5/PI0 (io), F3 PI11 (io), G3 LCD_VSYNC/PI13 (io), G4 LCD_R0/PI15 (io), G12 LCD_G4/PJ11 (io), H3 LCD_CLK/PI14 (io), H12 LCD_G1/PJ8 (io), H13 LCD_G3/PJ10 (io), J12 LCD_G0/PJ7 (io), J13 LCD_G2/PJ9 (io), K12 LCD_R7/PJ6 (io), M9 LCD_R5/PJ4 (io), M14 LCD_R6/PJ5 (io), N8 LCD_R4/PJ3 (io), P7 LCD_R3/PJ2 (io), R6 LCD_R1/PJ0 (io), R7 LCD_R2/PJ1 (io)
part F pins: C4 LCD_DE/PK7 (io), C5 LCD_B7/PK6 (io), C6 LCD_B6/PK5 (io), D7 LCD_B5/PK4 (io), D8 LCD_B4/PK3 (io), F12 LCD_G6/PK1 (io), F13 LCD_G7/PK2 (io), G13 LCD_G5/PK0 (io)
part G pins: C1 VBAT (power), E5 PDR_ON (power), E6 BOOT0 (in), E11 VCAP2 (power), J1 NRST (io), L5 BYPASS-REG (in), L11 VCAP1 (power), N1 VREF- (power), P1 VREF+ (power)
part H pins: E7 VDD (power), E8 VDD (power), E9 VDD (power), E10 VDD (power), F2 VSS (power), F4 VDD (power), F5 VDD (power), F6 VSS (power), F7 VSS (power), F8 VSS (power), F9 VSS (power), F10 VSS (power), F11 VDD (power), G5 VDD (power), G6 VSS (power), G10 VSS (power), G11 VDD (power), H5 VDD (power), H6 VSS (power), H10 VSS (power), H11 VDD (power), J5 VDD (power), J6 VSS (power), J10 VSS (power), J11 VDD (power), K5 VDD (power), K6 VSS (power), K7 VSS (power), K8 VSS (power), K9 VSS (power), K10 VSS (power), K11 VDD (power), L6 VSS (power), L7 VDD (power), L8 VDD (power), L9 VDD (power), L10 VDD (power), M1 VSSA (power), R1 VDDA (power)

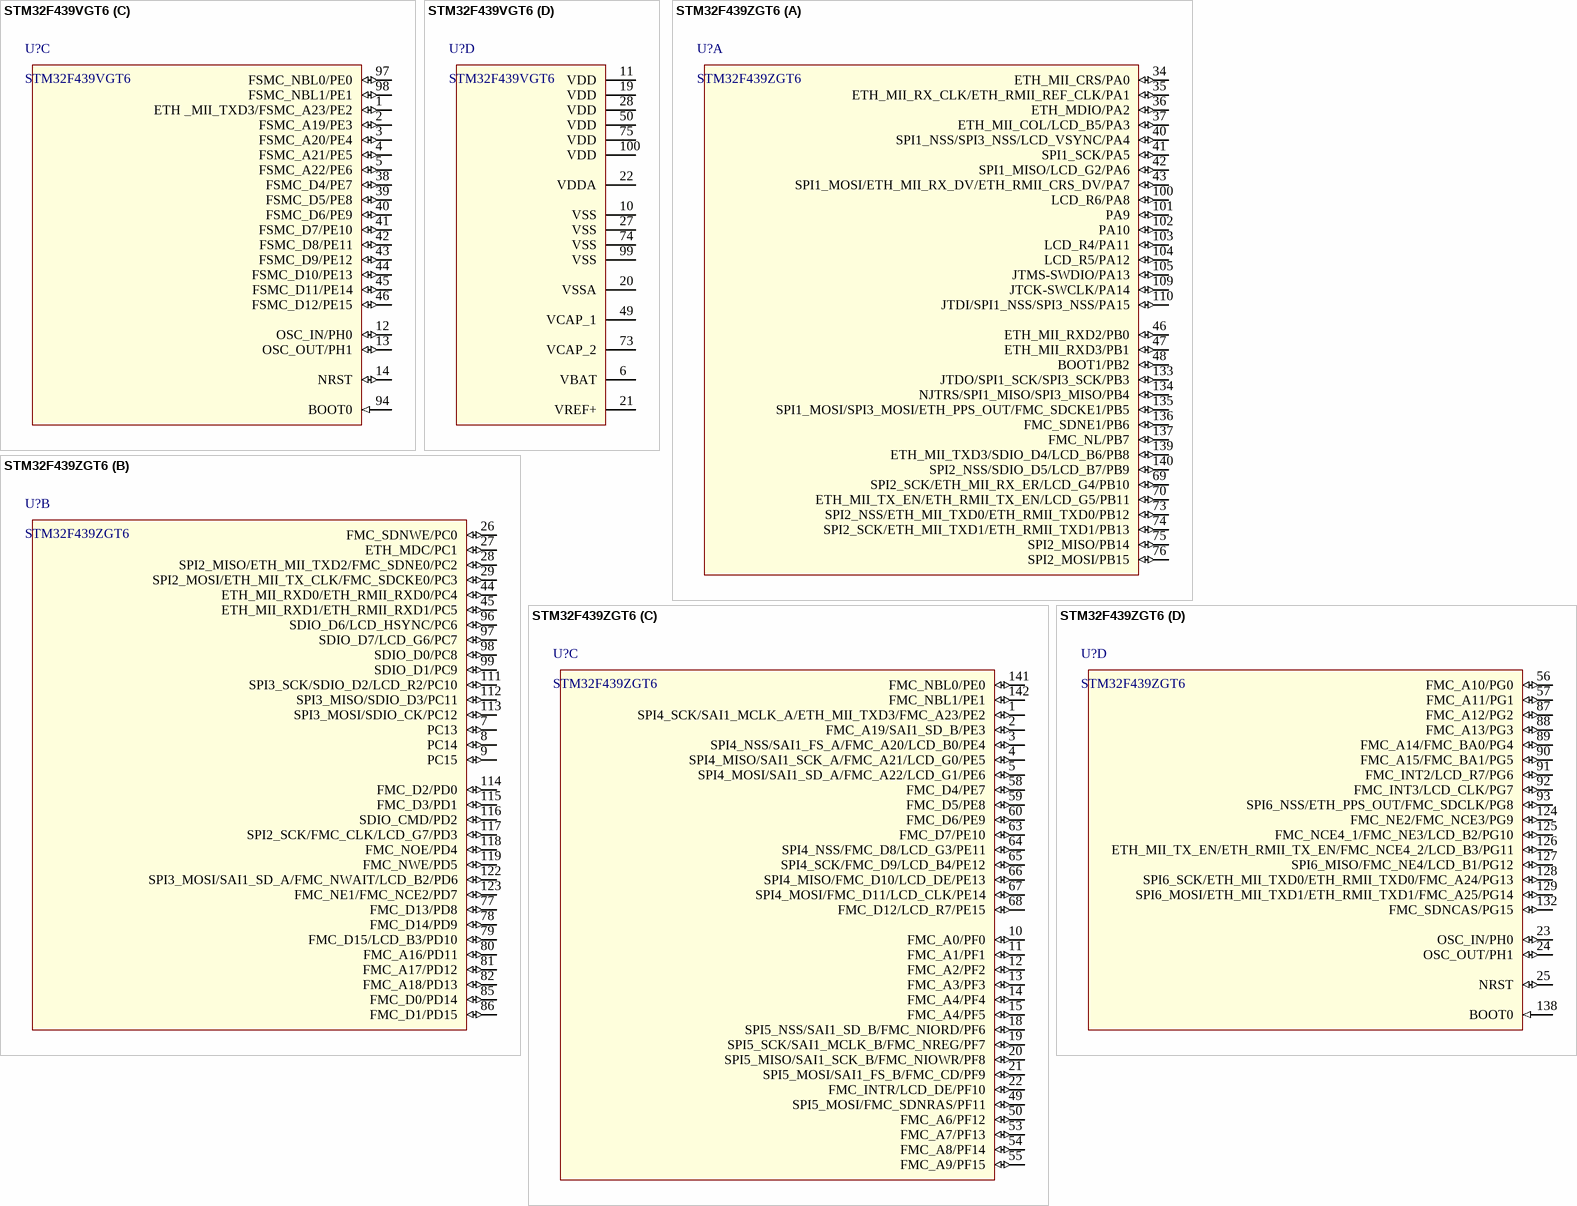
[diagram p4: symbols STM32F439VGT6 to STM32F439ZGT6]

## STM32F439VGT6
designator U?
Published: 20130831
footprint TQFP100N50P14X14X1.2 (TQFP, 100-Leads, Body 16.0x16.0mm (max), Pitch 0.50mm, IPC Medium Density)
part A pins: 23 ETH_MII_CRS/PA0 (io), 24 ETH_MII_RX_CLK/ETH_RMII_REF_CLK/PA1 (io), 25 ETH_MDIO/PA2 (io), 26 ETH _MII_COL/PA3 (io), 29 SPI1_NSS/SPI3_NSS/PA4 (io), 30 SPI1_SCK/PA5 (io), 31 SPI1_MISO/PA6 (io), 32 SPI1_MOSI/ETH_MII_RX_DV/ETH_RMII_CRS_DV/PA7 (io), 35 ETH_MII_RXD2/PB0 (io), 36 ETH_MII_RXD3/PB1 (io), 37 BOOT1/PB2 (io), 47 SPI2_SCK//ETH_MII_RX_ER/PB10 (io), 48 ETH_MII_TX_EN/ETH_RMII_TX_EN/PB11 (io), 51 SPI2_NSS/ETH_MII_TXD0/ETH_RMII_TXD0/PB12 (io), 52 SPI2_SCK/ETH_MII_TXD1/ETH_RMII_TXD1/PB13 (io), 53 SPI2_MISO/PB14 (io), 54 SPI2_MOSI/PB15 (io), 67 MCO1/PA8 (io), 68 PA9 (io), 69 PA10 (io), 70 PA11 (io), 71 PA12 (io), 72 JTMS-SWDIO/PA13 (io), 76 JTCK-SWCLK/PA14 (io), 77 JTDI/SPI1_NSS/SPI3_NSS/PA15 (io), 89 JTDO/SPI1_SCK/SPI3_SCK/PB3 (io), 90 NJTRST/SPI1_MISO/SPI3_MISO/PB4 (io), 91 SPI1_MOSI/SPI3_MOSI/ETH _PPS_OUT/PB5 (io), 92 PB6 (io), 93 FSMC_NL/PB7 (io), 95 ETH_MII_TXD3/SDIO_D4/PB8 (io), 96 SPI2_NSS/SDIO_D5/PB9 (io)
part B pins: 7 PC13 (io), 8 PC14 (io), 9 PC15 (io), 15 PC0 (io), 16 ETH_MDC/PC1 (io), 17 SPI2_MISO/ETH_MII_TXD2/PC2 (io), 18 SPI2_MOSI/ETH_MII_TX_CLK/PC3 (io), 33 ETH_MII_RXD0/ETH_RMII_RXD0/PC4 (io), 34 ETH_MII_RXD1/ETH_RMII_RXD1/PC5 (io), 55 FSMC_D13/PD8 (io), 56 FSMC_D14/PD9 (io), 57 FSMC_D15/PD10 (io), 58 FSMC_A16/PD11 (io), 59 FSMC_A17/PD12 (io), 60 FSMC_A18/PD13 (io), 61 FSMC_D0/PD14 (io), 62 FSMC_D1/PD15 (io), 63 SDIO_D6/PC6 (io), 64 SDIO_D7/PC7 (io), 65 SDIO_D0/PC8 (io), 66 MCO2/SDIO_D1/PC9 (io), 78 SPI3_SCK/SDIO_D2/PC10 (io), 79 SPI3_MISO/SDIO_D3/PC11 (io), 80 SPI3_MOSI/SDIO_CK/PC12 (io), 81 FSMC_D2/PD0 (io), 82 FSMC_D3/PD1 (io), 83 SDIO_CMD/PD2 (io), 84 FSMC_CLK/PD3 (io), 85 FSMC_NOE/PD4 (io), 86 FSMC_NWE/PD5 (io), 87 FSMC_NWAIT/PD6 (io), 88 FSMC_NE1/FSMC_NCE2/PD7 (io)
part C pins: 1 ETH _MII_TXD3/FSMC_A23/PE2 (io), 2 FSMC_A19/PE3 (io), 3 FSMC_A20/PE4 (io), 4 FSMC_A21/PE5 (io), 5 FSMC_A22/PE6 (io), 12 OSC_IN/PH0 (io), 13 OSC_OUT/PH1 (io), 14 NRST (io), 38 FSMC_D4/PE7 (io), 39 FSMC_D5/PE8 (io), 40 FSMC_D6/PE9 (io), 41 FSMC_D7/PE10 (io), 42 FSMC_D8/PE11 (io), 43 FSMC_D9/PE12 (io), 44 FSMC_D10/PE13 (io), 45 FSMC_D11/PE14 (io), 46 FSMC_D12/PE15 (io), 94 BOOT0 (in), 97 FSMC_NBL0/PE0 (io), 98 FSMC_NBL1/PE1 (io)
part D pins: 6 VBAT (power), 10 VSS (power), 11 VDD (power), 19 VDD (power), 20 VSSA (power), 21 VREF+ (power), 22 VDDA (power), 27 VSS (power), 28 VDD (power), 49 VCAP_1 (power), 50 VDD (power), 73 VCAP_2 (power), 74 VSS (power), 75 VDD (power), 99 VSS (power), 100 VDD (power)

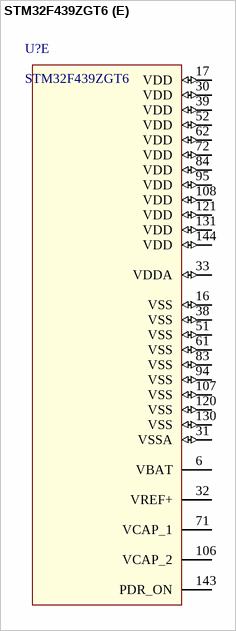
[diagram p5: symbol STM32F439ZGT6]

## STM32F439ZGT6
designator U?
Published: 20130831
footprint LQFP144-50P22X22X1.6 (TSQFP, 144-Leads, Body 22.2x22.2mm (max), Pitch 0.50mm, IPC Medium Density)
part A pins: 34 ETH_MII_CRS/PA0 (io), 35 ETH_MII_RX_CLK/ETH_RMII_REF_CLK/PA1 (io), 36 ETH_MDIO/PA2 (io), 37 ETH_MII_COL/LCD_B5/PA3 (io), 40 SPI1_NSS/SPI3_NSS/LCD_VSYNC/PA4 (io), 41 SPI1_SCK/PA5 (io), 42 SPI1_MISO/LCD_G2/PA6 (io), 43 SPI1_MOSI/ETH_MII_RX_DV/ETH_RMII_CRS_DV/PA7 (io), 46 ETH_MII_RXD2/PB0 (io), 47 ETH_MII_RXD3/PB1 (io), 48 BOOT1/PB2 (io), 69 SPI2_SCK/ETH_MII_RX_ER/LCD_G4/PB10 (io), 70 ETH_MII_TX_EN/ETH_RMII_TX_EN/LCD_G5/PB11 (io), 73 SPI2_NSS/ETH_MII_TXD0/ETH_RMII_TXD0/PB12 (io), 74 SPI2_SCK/ETH_MII_TXD1/ETH_RMII_TXD1/PB13 (io), 75 SPI2_MISO/PB14 (io), 76 SPI2_MOSI/PB15 (io), 100 LCD_R6/PA8 (io), 101 PA9 (io), 102 PA10 (io), 103 LCD_R4/PA11 (io), 104 LCD_R5/PA12 (io), 105 JTMS-SWDIO/PA13 (io), 109 JTCK-SWCLK/PA14 (io), 110 JTDI/SPI1_NSS/SPI3_NSS/PA15 (io), 133 JTDO/SPI1_SCK/SPI3_SCK/PB3 (io), 134 NJTRS/SPI1_MISO/SPI3_MISO/PB4 (io), 135 SPI1_MOSI/SPI3_MOSI/ETH_PPS_OUT/FMC_SDCKE1/PB5 (io), 136 FMC_SDNE1/PB6 (io), 137 FMC_NL/PB7 (io), 139 ETH_MII_TXD3/SDIO_D4/LCD_B6/PB8 (io), 140 SPI2_NSS/SDIO_D5/LCD_B7/PB9 (io)
part B pins: 7 PC13 (io), 8 PC14 (io), 9 PC15 (io), 26 FMC_SDNWE/PC0 (io), 27 ETH_MDC/PC1 (io), 28 SPI2_MISO/ETH_MII_TXD2/FMC_SDNE0/PC2 (io), 29 SPI2_MOSI/ETH_MII_TX_CLK/FMC_SDCKE0/PC3 (io), 44 ETH_MII_RXD0/ETH_RMII_RXD0/PC4 (io), 45 ETH_MII_RXD1/ETH_RMII_RXD1/PC5 (io), 77 FMC_D13/PD8 (io), 78 FMC_D14/PD9 (io), 79 FMC_D15/LCD_B3/PD10 (io), 80 FMC_A16/PD11 (io), 81 FMC_A17/PD12 (io), 82 FMC_A18/PD13 (io), 85 FMC_D0/PD14 (io), 86 FMC_D1/PD15 (io), 96 SDIO_D6/LCD_HSYNC/PC6 (io), 97 SDIO_D7/LCD_G6/PC7 (io), 98 SDIO_D0/PC8 (io), 99 SDIO_D1/PC9 (io), 111 SPI3_SCK/SDIO_D2/LCD_R2/PC10 (io), 112 SPI3_MISO/SDIO_D3/PC11 (io), 113 SPI3_MOSI/SDIO_CK/PC12 (io), 114 FMC_D2/PD0 (io), 115 FMC_D3/PD1 (io), 116 SDIO_CMD/PD2 (io), 117 SPI2_SCK/FMC_CLK/LCD_G7/PD3 (io), 118 FMC_NOE/PD4 (io), 119 FMC_NWE/PD5 (io), 122 SPI3_MOSI/SAI1_SD_A/FMC_NWAIT/LCD_B2/PD6 (io), 123 FMC_NE1/FMC_NCE2/PD7 (io)
part C pins: 1 SPI4_SCK/SAI1_MCLK_A/ETH_MII_TXD3/FMC_A23/PE2 (io), 2 FMC_A19/SAI1_SD_B/PE3 (io), 3 SPI4_NSS/SAI1_FS_A/FMC_A20/LCD_B0/PE4 (io), 4 SPI4_MISO/SAI1_SCK_A/FMC_A21/LCD_G0/PE5 (io), 5 SPI4_MOSI/SAI1_SD_A/FMC_A22/LCD_G1/PE6 (io), 10 FMC_A0/PF0 (io), 11 FMC_A1/PF1 (io), 12 FMC_A2/PF2 (io), 13 FMC_A3/PF3 (io), 14 FMC_A4/PF4 (io), 15 FMC_A4/PF5 (io), 18 SPI5_NSS/SAI1_SD_B/FMC_NIORD/PF6 (io), 19 SPI5_SCK/SAI1_MCLK_B/FMC_NREG/PF7 (io), 20 SPI5_MISO/SAI1_SCK_B/FMC_NIOWR/PF8 (io), 21 SPI5_MOSI/SAI1_FS_B/FMC_CD/PF9 (io), 22 FMC_INTR/LCD_DE/PF10 (io), 49 SPI5_MOSI/FMC_SDNRAS/PF11 (io), 50 FMC_A6/PF12 (io), 53 FMC_A7/PF13 (io), 54 FMC_A8/PF14 (io), 55 FMC_A9/PF15 (io), 58 FMC_D4/PE7 (io), 59 FMC_D5/PE8 (io), 60 FMC_D6/PE9 (io), 63 FMC_D7/PE10 (io), 64 SPI4_NSS/FMC_D8/LCD_G3/PE11 (io), 65 SPI4_SCK/FMC_D9/LCD_B4/PE12 (io), 66 SPI4_MISO/FMC_D10/LCD_DE/PE13 (io), 67 SPI4_MOSI/FMC_D11/LCD_CLK/PE14 (io), 68 FMC_D12/LCD_R7/PE15 (io), 141 FMC_NBL0/PE0 (io), 142 FMC_NBL1/PE1 (io)
part D pins: 23 OSC_IN/PH0 (io), 24 OSC_OUT/PH1 (io), 25 NRST (io), 56 FMC_A10/PG0 (io), 57 FMC_A11/PG1 (io), 87 FMC_A12/PG2 (io), 88 FMC_A13/PG3 (io), 89 FMC_A14/FMC_BA0/PG4 (io), 90 FMC_A15/FMC_BA1/PG5 (io), 91 FMC_INT2/LCD_R7/PG6 (io), 92 FMC_INT3/LCD_CLK/PG7 (io), 93 SPI6_NSS/ETH_PPS_OUT/FMC_SDCLK/PG8 (io), 124 FMC_NE2/FMC_NCE3/PG9 (io), 125 FMC_NCE4_1/FMC_NE3/LCD_B2/PG10 (io), 126 ETH_MII_TX_EN/ETH_RMII_TX_EN/FMC_NCE4_2/LCD_B3/PG11 (io), 127 SPI6_MISO/FMC_NE4/LCD_B1/PG12 (io), 128 SPI6_SCK/ETH_MII_TXD0/ETH_RMII_TXD0/FMC_A24/PG13 (io), 129 SPI6_MOSI/ETH_MII_TXD1/ETH_RMII_TXD1/FMC_A25/PG14 (io), 132 FMC_SDNCAS/PG15 (io), 138 BOOT0 (in)
part E pins: 6 VBAT (power), 16 VSS (io), 17 VDD (io), 30 VDD (io), 31 VSSA (io), 32 VREF+ (power), 33 VDDA (io), 38 VSS (io), 39 VDD (io), 51 VSS (io), 52 VDD (io), 61 VSS (io), 62 VDD (io), 71 VCAP_1 (power), 72 VDD (io), 83 VSS (io), 84 VDD (io), 94 VSS (io), 95 VDD (io), 106 VCAP_2 (power), 107 VSS (io), 108 VDD (io), 120 VSS (io), 121 VDD (io), 130 VSS (io), 131 VDD (io), 143 PDR_ON (power), 144 VDD (io)